# EAGLE library part HEADER-ESP8266-4X2 (library HEADER-4X2-A)
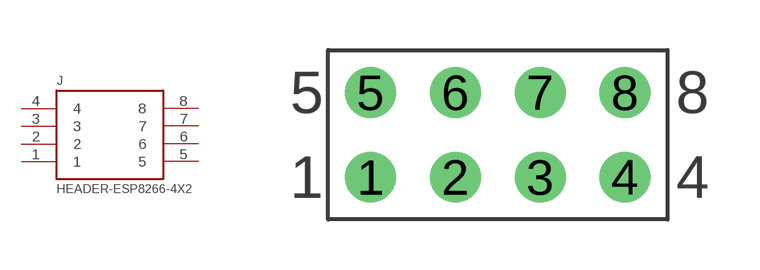
[diagram p0: symbol with the pads of HEADER-4X2-A; footprint HEADER-4X2-A]

Designator prefix J

## HEADER-ESP8266-4X2  [HEADER-4X2-A]
1  1
2  2
3  3
4  4
5  5
6  6
7  7
8  8

## Footprint HEADER-4X2-A (pad centres in mm)
drill 1.016: 1 0,0; 2 2.54,0; 3 5.08,0; 4 7.62,0; 5 0,2.54; 6 2.54,2.54; 7 5.08,2.54; 8 7.62,2.54